# EAGLE library part UCC27712 (library LARS_409_MC3)
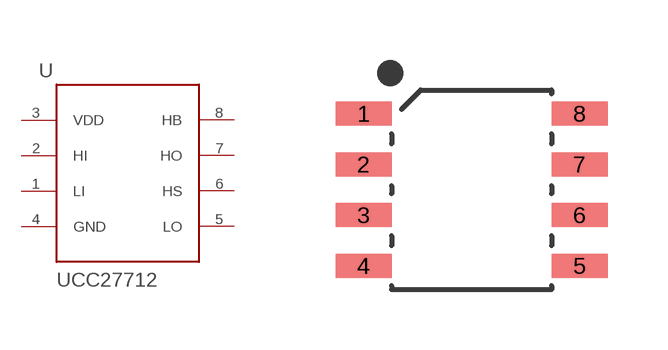
[diagram p12: symbol with the pads of SOIC-8; footprint SOIC-8]

Designator prefix U

## UCC27712  [SOIC-8]
1  LI  in
2  HI  pwr
3  VDD  out
4  GND  in
5  LO  in
6  HS  out
7  HO  pwr
8  HB  in

## Footprint SOIC-8 (pad centres in mm)
8-SOIC, 1.27 mm pitch, 6.00 mm span, 4.90 X 4.90 X 1.50 mm body 8-pin SOIC package with 1.27 mm pitch, 6.00 mm span with body size 4.90 X 4.90 X 1.50 mm
smd 1.4 x 0.6: 1 -2.7,1.905; 2 -2.7,0.635; 3 -2.7,-0.635; 4 -2.7,-1.905; 5 2.7,-1.905; 6 2.7,-0.635; 7 2.7,0.635; 8 2.7,1.905